# Altium schematic symbol library U_OPAMP_LMx58.SchLib: 1 symbol
Pins are listed as number, name and electrical type; pins without a type are passive.

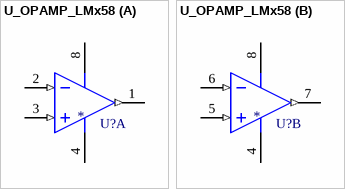
[diagram p0: symbol U_OPAMP_LMx58]

## U_OPAMP_LMx58
designator U?
part A pins: 1 OUTA (out), 2 INA- (in), 3 INA+ (in), 4 GND (power), 8 V+ (power)
part B pins: 4 GND (power), 5 INB+ (in), 6 INB- (in), 7 OUTB (out), 8 V+ (power)
1 alternate drawing of the same symbol